# EAGLE library part SN74ALS541DW (library SN74ALS541DW)
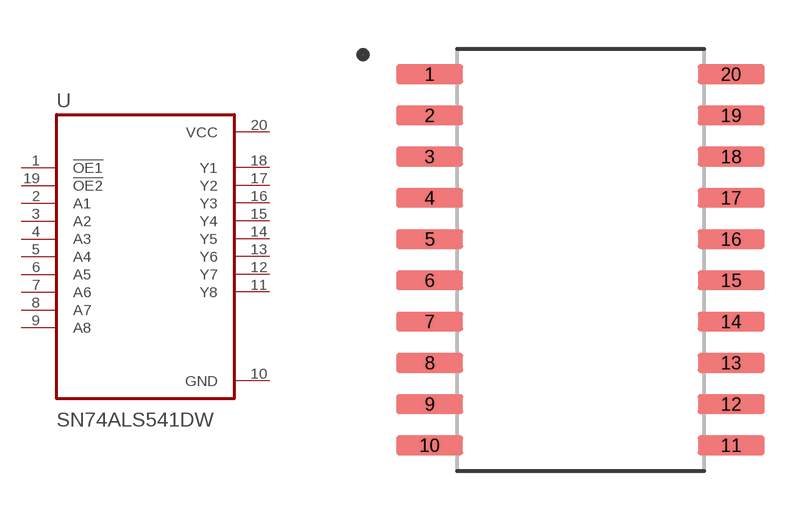
[diagram p0: symbol with the pads of SOIC127P1030X265-20N; footprint SOIC127P1030X265-20N]

Designator prefix U

## SN74ALS541DW  [SOIC127P1030X265-20N]
1  !OE1  in
2  A1  in
3  A2  in
4  A3  in
5  A4  in
6  A5  in
7  A6  in
8  A7  in
9  A8  in
10  GND  pwr
11  Y8  out
12  Y7  out
13  Y6  out
14  Y5  out
15  Y4  out
16  Y3  out
17  Y2  out
18  Y1  out
19  !OE2  in
20  VCC  pwr

## Footprint SOIC127P1030X265-20N (pad centres in mm)
smd 2.06 x 0.6: 1 -4.64,5.715; 2 -4.64,4.445; 3 -4.64,3.175; 4 -4.64,1.905; 5 -4.64,0.635; 6 -4.64,-0.635; 7 -4.64,-1.905; 8 -4.64,-3.175; 9 -4.64,-4.445; 10 -4.64,-5.715; 11 4.64,-5.715; 12 4.64,-4.445; 13 4.64,-3.175; 14 4.64,-1.905; 15 4.64,-0.635; 16 4.64,0.635; 17 4.64,1.905; 18 4.64,3.175; 19 4.64,4.445; 20 4.64,5.715